# Altium footprint library PcbLib13.PcbLib: 1 footprints
Each footprint in its own frame and in the unit in brackets; x right, y up, seen from the top. Pads: shape width x height; smd on the part's side, far side on the other; paste and mask are expansions set on the pad; w line width, h text height; cw(c..) or ccw(c..) is an arc to the next point about the centre after c.
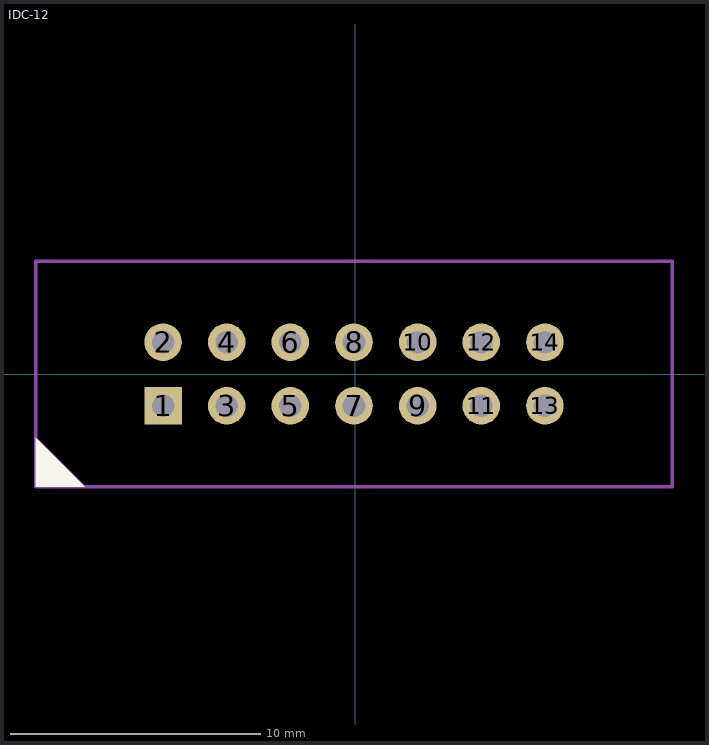
[diagram p0: the footprint, top view; thin cyan lines are the x and y axes]

## IDC-12 [mm]
pads (14):
  rect 1.5x1.5 hole 0.9: 1(-7.67,-1.27)
  round 1.5 hole 0.9: 2(-7.67,1.27) 3(-5.13,-1.27) 4(-5.13,1.27) 5(-2.59,-1.27) 6(-2.59,1.27) 7(-0.05,-1.27) 8(-0.05,1.27) 9(2.49,-1.27) 10(2.49,1.27) 11(5.03,-1.27) 12(5.03,1.27) 13(7.57,-1.27) 14(7.57,1.27)
Top Overlay:
  region: -12.75,-4.5 -12.75,-2.54 -10.79,-4.5
Mechanical 29:
  region: -12.714,-4.5 -12.714,-2.54 -10.754,-4.5
  lines w0.15: -12.75,-4.5 12.65,-4.5 ; -12.75,-4.5 -12.75,4.5 ; -12.75,-4.5 -12.75,4.5 ; -12.75,-4.5 12.65,-4.5 ; -12.75,4.5 12.65,4.5 ; -12.75,4.5 12.65,4.5 ; 12.65,-4.5 12.65,4.5 ; 12.65,-4.5 12.65,4.5
  text ".Designator" at -3.05,-0.3 h1
3D body "IDC-14MS.STEP": height 10.25, standoff -2.45, extent -12.775,-4.42 12.625,4.93